# Altium schematic symbol library WP-TGTR.SchLib: 4 symbols
Pins are listed as number, name and electrical type; pins without a type are passive.

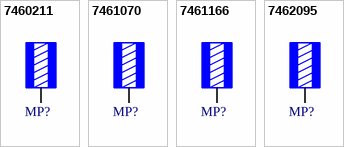
[diagram p0: symbols 7460211 to 7462095]

## 7460211
designator MP?, comment ID 7.3mm  (value not drawn)
WP-TGTR REDCUBE PRESS-FIT two-part gound terminal with two rows pin plate, L13W13H3.1mm, ID 7.3mm, 2; Manufacturer Part Number: 7460211; Manufacturer: Wurth Elektronik; Rated Current: 240A; Surface: Tin; ComponentLink1Description: Website Link; ComponentLink1URL: https://www.we-online.com/redexpert/article/7460211?ad; ComponentLink2Description: Datasheet Link; ComponentLink2URL: https://www.we-online.com/redexpert/spec/7460211?ad; Category: REDCUBE PRESS-FIT; Match Code: WP-TGTR; Mount: Press Fit; Operating Temperature Max: 150°C; Operating Temperature Min: -55°C; Packaging: Bulk; Length: 13mm; Width: 13mm; Height: 3.1mm; Inner Diameter: 7.3mm; Material: Brass; Number of Pins: 10
footprint 7460211_chemical surface
footprint 7460211_HAL
pins: 1

## 7461070
designator MP?, comment ID 5.5mm  (value not drawn)
WP-TGTR REDCUBE PRESS-FIT two-part gound terminal with two rows pin plate, L9W9H3.1mm, ID 5.5mm, 160; Manufacturer Part Number: 7461070; Manufacturer: Wurth Elektronik; Rated Current: 160A; Surface: Tin; ComponentLink1Description: Website Link; ComponentLink1URL: https://www.we-online.com/redexpert/article/7461070?ad; ComponentLink2Description: Datasheet Link; ComponentLink2URL: https://www.we-online.com/redexpert/spec/7461070?ad; Category: REDCUBE PRESS-FIT; Match Code: WP-TGTR; Mount: Press Fit; Operating Temperature Max: 150°C; Operating Temperature Min: -55°C; Packaging: Bulk; Length: 9mm; Width: 9mm; Height: 3.1mm; Inner Diameter: 5.5mm; Material: Brass; Number of Pins: 8
footprint 7461070_chemical surface
footprint 7461070_HAL
pins: 1

## 7461166
designator MP?, comment ID 9.8mm  (value not drawn)
WP-TGTR REDCUBE PRESS-FIT two-part gound terminal with two rows pin plate, L16W16H3.1mm, ID 9.8mm, 3; Manufacturer Part Number: 7461166; Manufacturer: Wurth Elektronik; Rated Current: 320A; Surface: Tin; ComponentLink1Description: Website Link; ComponentLink1URL: https://www.we-online.com/redexpert/article/7461166?ad; ComponentLink2Description: Datasheet Link; ComponentLink2URL: https://www.we-online.com/redexpert/spec/7461166?ad; Category: REDCUBE PRESS-FIT; Match Code: WP-TGTR; Mount: Press Fit; Operating Temperature Max: 150°C; Operating Temperature Min: -55°C; Packaging: Bulk; Length: 16mm; Width: 16mm; Height: 3.1mm; Inner Diameter: 9.8mm; Material: Brass; Number of Pins: 12
footprint 7461166_chemical surface
footprint 7461166_HAL
pins: 1

## 7462095
designator MP?, comment ID 10.5mm  (value not drawn)
WP-TGTR REDCUBE PRESS-FIT two-part gound terminal with two rows pin plate, L16W16H3.1mm, ID 10.5mm,; Manufacturer Part Number: 7462095; Manufacturer: Wurth Elektronik; Rated Current: 320A; Surface: Tin; ComponentLink1Description: Website Link; ComponentLink1URL: https://www.we-online.com/redexpert/article/7462095?ad; ComponentLink2Description: Datasheet Link; ComponentLink2URL: https://www.we-online.com/redexpert/spec/7462095?ad; Category: REDCUBE PRESS-FIT; Match Code: WP-TGTR; Mount: Press Fit; Operating Temperature Max: 150°C; Operating Temperature Min: -55°C; Packaging: Bulk; Length: 16mm; Width: 16mm; Height: 3.1mm; Inner Diameter: 10.5mm; Material: Brass; Number of Pins: 12
footprint 7462095_chemical surface
footprint 7462095_HAL
pins: 1